# EAGLE library part ESQT-112-02-X-D (library Traficon)
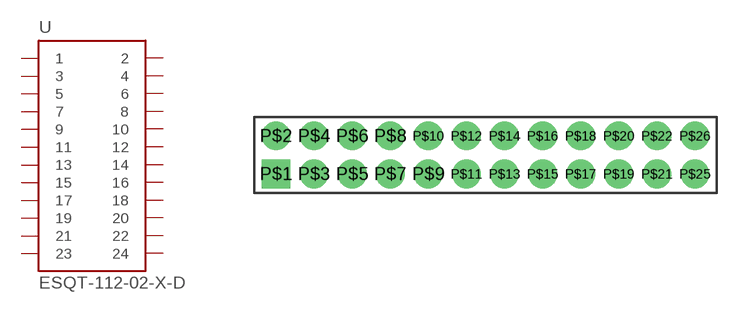
[diagram p190: symbol with the pads of 2MMHEAD2X12_TH; footprint 2MMHEAD2X12_TH]

Designator prefix -

## ESQT-112-02-X-D  [2MMHEAD2X12_TH]
P$1  1  pas
P$2  2  pas
P$3  3  pas
P$4  4  pas
P$5  5  pas
P$6  6  pas
P$7  7  pas
P$8  8  pas
P$9  9  pas
P$10  10  pas
P$11  11  pas
P$12  12  pas
P$13  13  pas
P$14  14  pas
P$15  15  pas
P$16  16  pas
P$17  17
P$18  18
P$19  19
P$20  20
P$21  21
P$22  22
P$25  23
P$26  24

## Footprint 2MMHEAD2X12_TH (pad centres in mm)
drill 1 square: P$1 -11,-1
drill 1 round: P$2 -11,1; P$3 -9,-1; P$4 -9,1; P$5 -7,-1; P$6 -7,1; P$7 -5,-1; P$8 -5,1; P$9 -3,-1; P$10 -3,1; P$11 -1,-1; P$12 -1,1; P$13 1,-1; P$14 1,1; P$15 3,-1; P$16 3,1; P$17 5,-1; P$18 5,1; P$19 7,-1; P$20 7,1; P$21 9,-1; P$22 9,1; P$25 11,-1; P$26 11,1